# EAGLE library part TL084 (library BME_Components)
Low-Noise JFET-Input Operational Amplifier, 7 to 36 V, 0 to 70 degC, 14-pin DIP (N14), Pb-Free (RoHS)
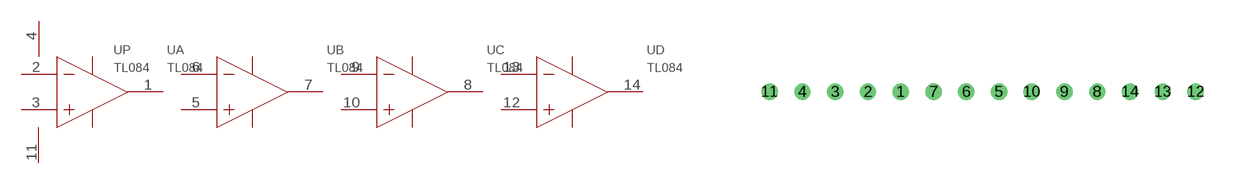
[diagram p16: symbol with the pads of TL084_PDIP-14; footprint TL084_PDIP-14]

Designator prefix U; gates P=TL084_P A=TL084_A B=TL084_B C=TL084_C D=TL084_D

## TL084TL084_TL084_PDIP-14 (CMRR(MIN)(DB): 75; CODE_JEDEC: MS-001; COMPONENTLINK1DESCRIPTION: Manufacturer URL; COMPONENTLINK1URL: http://www.ti.com/; COMPONENTLINK2DESCRIPTION: Datasheet; COMPONENTLINK2URL: http://www.ti.com/lit/ds/symlink/tl074a.pdf; COMPONENTLINK3DESCRIPTION: Package Specification; COMPONENTLINK3URL: http://www.ti.com/lit/ml/mpdi002c/mpdi002c.pdf; DATASHEETVERSION: SLOS080J; ECO-PLAN: Pb-Free (RoHS); GBW(TYP)(MHZ): 3; IIB(MAX)(PA): 200; IQ_PER_CHANNEL(MAX)(MA): 2.5; MANUFACTURER: Texas Instruments; MOUNTING_TECHNOLOGY: Through Hole; NUMBER_OF_CHANNELS: 4; OFFSET_DRIFT(TYP)(UV/C): 18; PACKAGEDESCRIPTION: 14-Pin Plastic In-Line, Body 19.305 x 6.35 mm, Pitch 2.54 mm; PACKAGEREFERENCE: N14; PACKAGEVERSION: 4040049/E, 12/2002; PARTID: 1; PARTNUMBER: TL074ACNE4; RATING: Catalog; SLEW_RATE(TYP)(V/US): 13; TOTAL_SUPPLY_VOLTAGE(MAX)(+5V_IS_5,_+/-5V_IS_10): 36; TOTAL_SUPPLY_VOLTAGE(MIN)(+5V_IS_5,_+/-5V_IS_10): 7; VIO_(25C)(MAX)(MV): 6; VN_AT_1KHZ(TYP)(NV/RTHZ): 18)  [TL084_PDIP-14]
1  A:OUT1  out
2  A:IN1-  in
3  A:IN1+  in
4  P:VCC+  pwr
5  B:IN2+  in
6  B:IN2-  in
7  B:OUT2  out
8  C:OUT3  out
9  C:IN3-  in
10  C:IN3+  in
11  P:VCC-  pwr
12  D:IN4+  in
13  D:IN4-  in
14  D:OUT4  out

## Footprint TL084_PDIP-14 (pad centres in mm)
drill 0.127 pad 0.254 round: 1 5.08,0; 2 3.81,0; 3 2.54,0; 4 1.27,0; 5 8.89,0; 6 7.62,0; 7 6.35,0; 8 12.7,0; 9 11.43,0; 10 10.16,0; 11 0,0; 12 16.51,0; 13 15.24,0; 14 13.97,0